# Altium footprint library TE_AMP.PcbLib: 1 footprints
Each footprint in its own frame and in the unit in brackets; x right, y up, seen from the top. Pads: shape width x height; smd on the part's side, far side on the other; paste and mask are expansions set on the pad; w line width, h text height; cw(c..) or ccw(c..) is an arc to the next point about the centre after c.
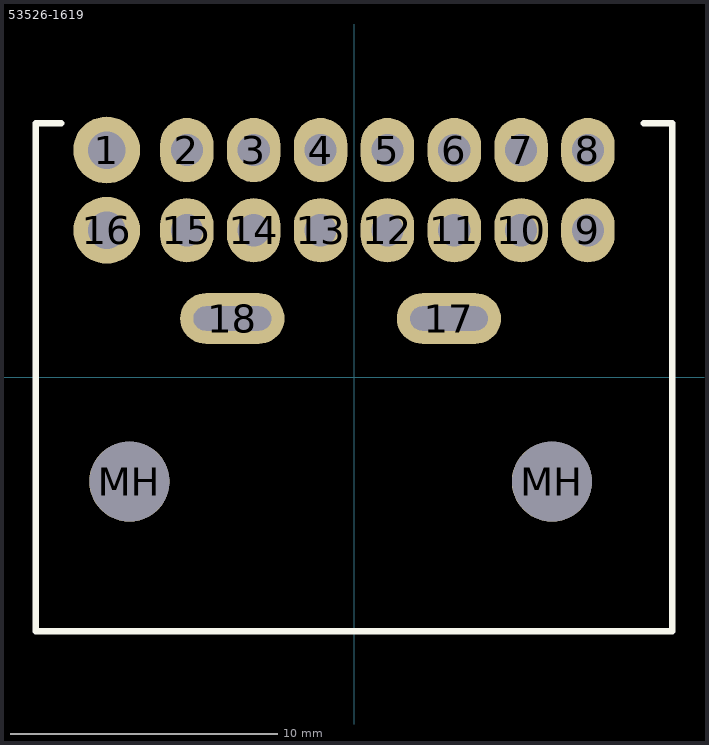
[diagram p0: the footprint, top view; thin cyan lines are the x and y axes]

## 53526-1619 [mm]
height 24
pads (20):
  round 2.5 hole 1.4: 1(-9.25,8.5) 16(-9.25,5.5)
  oval 2x2.4 hole 1.2: 2(-6.25,8.5) 3(-3.75,8.5) 4(-1.25,8.5) 5(1.25,8.5) 6(3.75,8.5) 7(6.25,8.5) 8(8.75,8.5) 9(8.75,5.5) 10(6.25,5.5) 11(3.75,5.5) 12(1.25,5.5) 13(-1.25,5.5) 14(-3.75,5.5) 15(-6.25,5.5)
  oval 3.9x1.9 hole 0.9 slot 2.9 at 0 deg: 17(3.55,2.2) 18(-4.55,2.2)
  round 3 hole 3 unplated: MH(-8.4,-3.9) MH(7.4,-3.9)
Top Overlay:
  lines w0.254: -11.9,0.05 -11.9,9.5 ; -10.95,9.5 -11.9,9.5 ; 10.85,9.5 11.9,9.5 11.9,0.05 11.9,-9.5 -8.4,-9.5 -11.9,-9.5 -11.9,9.5